# Altium schematic symbol library Nolden_Power_Board_V2.SCHLIB: 9 symbols
Pins are listed as number, name and electrical type; pins without a type are passive.

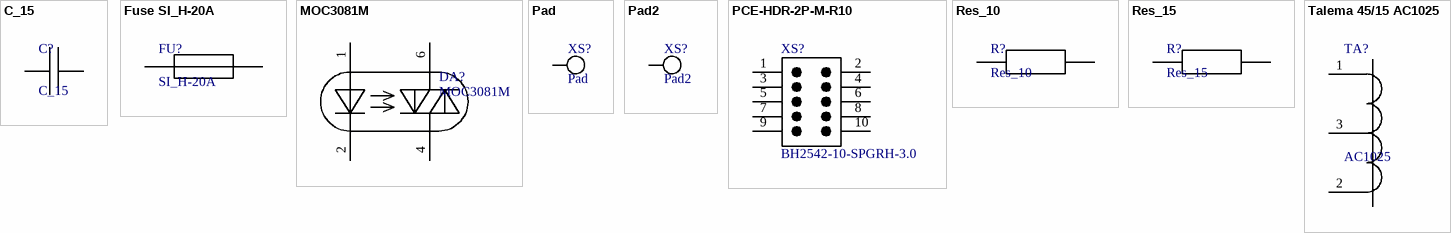
[diagram p0: symbols C_15 to Talema 45/15 AC1025]

## C_15
designator C?
Value: *
footprint C-15
pins: 1, 2

## Fuse SI_H-20A
designator FU?, comment SI_H-20A
ClassName: FU
footprint SI_H-20A_
pins: 2, 3

## MOC3081M
designator DA?
MOC3081M Optosimistor Driver; ClassName: VS
footprint DIL-06
pins: 1 Anode, 2 Cathode, 4 Main terminal (power), 6 Main terminal (power)

## Pad
designator XS?
PCB TH Pad
footprint LOTPAD
pins: 1

## Pad2
designator XS?
PCB TH Pad
footprint LOTPAD_2
pins: 1, 2

## PCE-HDR-2P-M-R10
designator XS?, comment BH2542-10-SPGRH-3.0
Box Header, Pitch 2.54 mm, 2x5 Position, Height 9 mm, Tail Length 3 mm; Manufacturer: Pinchao Electronic; Insulator Material: NY-6T; Insulator resistance (Min.): 1000 Megohms; Plating: Gold Flash; No. of positions: 10; No. of Rows: 2; Dielectric Withstaanding: AC 500 V; Current Rating: 3 Amps; Pitch: 2.54 mm; ComponentLink1Description: Manufacturer URL; PartNumber: BH2542-10-SPGRH-3.0; PackageReference: BH2542-10-SPGRH-3.0; ComponentLink1URL: http://www.suzhoupinchao.com/; PackageDescription: Box Header, Pitch 2.54 mm, 2x5 Position, Height 9 mm, Tail Length 3 mm; Connector Type: Box Header; Mounting Technology: Through Hole; Operating Temperature: -40 to 105 degC
footprint PCE-BH2542-10-SPGRH-3.0
pins: 1, 2, 3, 4, 5, 6, 7, 8, 9, 10

## Res_10
designator R?
Value: *
footprint R-10
pins: 1, 2

## Res_15
designator R?
Value: *
footprint R-15
pins: 1, 2

## Talema 45/15 AC1025
designator TA?, comment AC1025
Talema India Current Trancducer 45/15 AC1025
footprint 10K_TRIM
pins: 1, 2, 3